# Altium footprint library EISI.PcbLib: 695 footprints (part 23 of 44)
Each footprint in its own frame and in the unit in brackets; x right, y up, seen from the top. Pads: shape width x height; smd on the part's side, far side on the other; paste and mask are expansions set on the pad; w line width, h text height; cw(c..) or ccw(c..) is an arc to the next point about the centre after c.
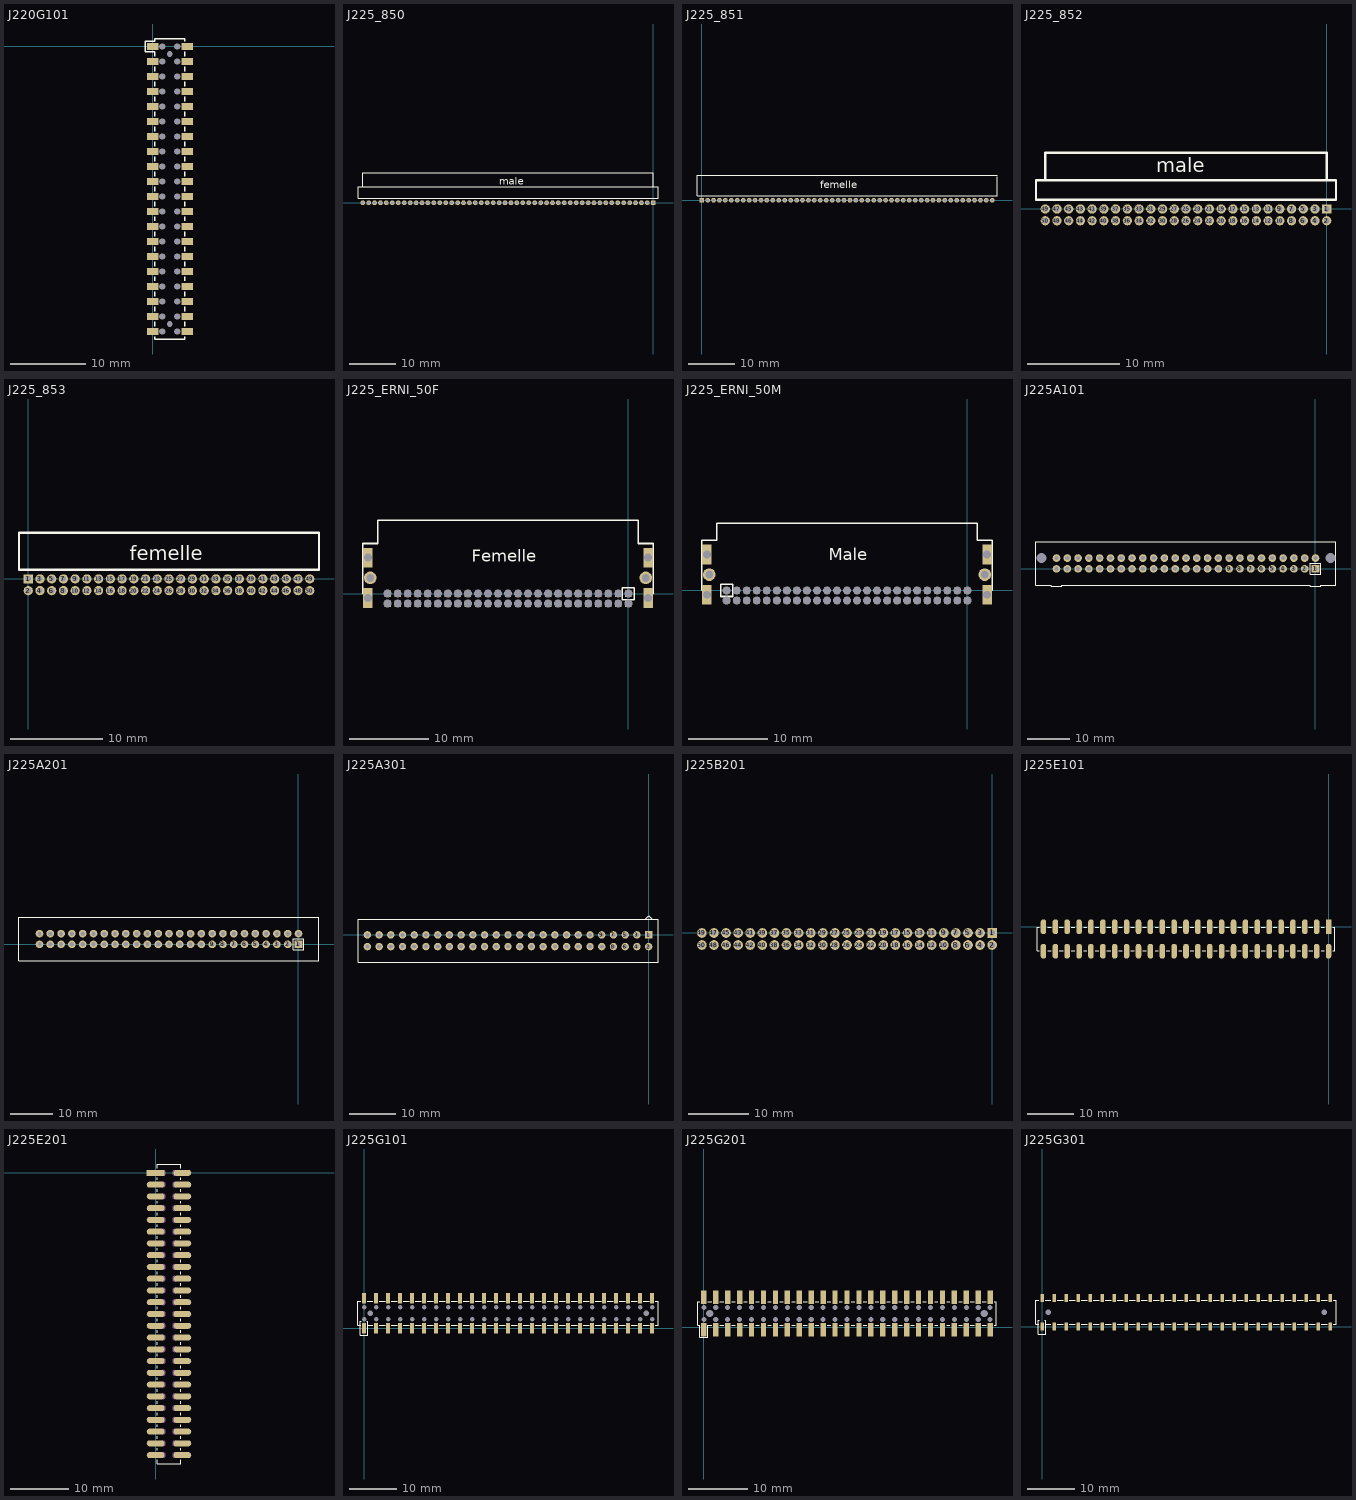
[diagram p22: the footprints below, top view; thin cyan lines are the x and y axes]

## J220G101 [mil]
pads (82):
  rect 60x35 smd: 1(0,0) 2(181.1,0) 3(0,-78.74) 4(181.1,-78.74) 5(0,-157.48) 6(181.1,-157.48) 7(0,-236.22) 8(181.1,-236.22) 9(0,-314.96) 10(181.1,-314.96) 11(0,-393.7) 12(181.1,-393.7) 13(0,-472.44) 14(181.1,-472.44) 15(0,-551.18) 16(181.1,-551.18) 17(0,-629.92) 18(181.1,-629.92) 19(0,-708.66) 20(181.1,-708.66) 21(0,-787.4) 22(181.1,-787.4) 23(0,-866.14) 24(181.1,-866.14) 25(0,-944.88) 26(181.1,-944.88) 27(0,-1023.62) 28(181.1,-1023.62) 29(0,-1102.36) 30(181.1,-1102.36) 31(0,-1181.1) 32(181.1,-1181.1) 33(0,-1259.84) 34(181.1,-1259.84) 35(0,-1338.58) 36(181.1,-1338.58) 37(0,-1417.32) 38(181.1,-1417.32) 39(0,-1496.06) 40(181.1,-1496.06)
  round 12 hole 33.86: ""(51.18,-1496.06) ""(51.18,-1417.32) ""(51.18,-1338.58) ""(51.18,-1259.84) ""(51.18,-1181.1) ""(51.18,-1102.36) ""(51.18,-1023.62) ""(51.18,-944.88) ""(51.18,-866.14) ""(51.18,-787.4) ""(51.18,-708.66) ""(51.18,-629.92) ""(51.18,-551.18) ""(51.18,-472.44) ""(51.18,-393.7) ""(51.18,-314.96) ""(51.18,-236.22) ""(51.18,-157.48) ""(51.18,-78.74) ""(51.18,0) ""(129.92,-1496.06) ""(129.92,-1417.32) ""(129.92,-1338.58) ""(129.92,-1259.84) ""(129.92,-1181.1) ""(129.92,-1102.36) ""(129.92,-1023.62) ""(129.92,-944.88) ""(129.92,-866.14) ""(129.92,-787.4) ""(129.92,-708.66) ""(129.92,-629.92) ""(129.92,-551.18) ""(129.92,-472.44) ""(129.92,-393.7) ""(129.92,-314.96) ""(129.92,-236.22) ""(129.92,-157.48) ""(129.92,-78.74) ""(129.92,0)
  round 12 hole 29.92: ""(90.55,-1456.69) ""(90.55,-39.37)
TopOverlay:
  lines w7.87: 11.81,-1523.62 11.81,-1535.43 169.29,-1535.43 169.29,-1523.62 ; 11.81,-1468.5 11.81,-1444.88 ; 11.81,-1389.76 11.81,-1366.14 ; 11.81,-1311.02 11.81,-1287.4 ; 11.81,-1208.66 12,-1229 ; 11.81,-1153.54 11.81,-1129.92 ; 11.81,-1074.8 11.81,-1051.18 ; 11.81,-996.06 11.81,-972.44 ; 11.81,-893.7 12,-916 ; 11.81,-838.58 11.81,-814.96 ; 11.81,-759.84 11.81,-736.22 ; 11.81,-681.1 11.81,-657.48 ; 11.81,-578.74 12,-602 ; 11.81,-523.62 11.81,-500 ; 11.81,-444.88 11.81,-421.26 ; 11.81,-366.14 11.81,-342.52 ; 11.81,-287.4 11.81,-263.78 ; 11.81,-208.66 11.81,-185.04 ; 11.81,-129.92 11.81,-106.3 ; 11.81,-51.18 11.81,-27.56 -15.75,-27.56 -39.37,-27.56 -39.37,27.56 11.81,27.56 11.81,39.37 169.29,39.37 169.29,27.56 ; 169,-1230 169.29,-1208.66 ; 169,-915 169.29,-893.7 ; 169,-602 169.29,-578.74 ; 169.29,-1468.5 169.29,-1444.88 ; 169.29,-1389.76 169.29,-1366.14 ; 169.29,-1311.02 169.29,-1287.4 ; 169.29,-1153.54 169.29,-1129.92 ; 169.29,-1074.8 169.29,-1051.18 ; 169.29,-996.06 169.29,-972.44 ; 169.29,-838.58 169.29,-814.96 ; 169.29,-759.84 169.29,-736.22 ; 169.29,-681.1 169.29,-657.48 ; 169.29,-523.62 169.29,-500 ; 169.29,-444.88 169.29,-421.26 ; 169.29,-366.14 169.29,-342.52 ; 169.29,-287.4 169.29,-263.78 ; 169.29,-208.66 169.29,-185.04 ; 169.29,-129.92 169.29,-106.3 ; 169.29,-51.18 169.29,-27.56

## J225_850 [mm]
pads (50):
  rect 1x1 hole 0.6: 1(-0.01,0)
  round 1 hole 0.6: 2(-1.28,0) 3(-2.55,0) 4(-3.82,0) 5(-5.09,0) 6(-6.36,0) 7(-7.63,0) 8(-8.9,0) 9(-10.17,0) 10(-11.44,0) 11(-12.71,0) 12(-13.98,0) 13(-15.25,0) 14(-16.52,0) 15(-17.79,0) 16(-19.06,0) 17(-20.33,0) 18(-21.6,0) 19(-22.87,0) 20(-24.14,0) 21(-25.41,0) 22(-26.68,0) 23(-27.95,0) 24(-29.22,0) 25(-30.49,0) 26(-31.76,0) 27(-33.03,0) 28(-34.3,0) 29(-35.57,0) 30(-36.84,0) 31(-38.11,0) 32(-39.38,0) 33(-40.65,0) 34(-41.92,0) 35(-43.19,0) 36(-44.46,0) 37(-45.73,0) 38(-47,0) 39(-48.27,0) 40(-49.54,0) 41(-50.81,0) 42(-52.08,0) 43(-53.35,0) 44(-54.62,0) 45(-55.89,0) 46(-57.16,0) 47(-58.43,0) 48(-59.7,0) 49(-60.97,0) 50(-62.24,0)
TopOverlay:
  lines w0.254: -62.24,3.4 -62.24,6.4 -0.01,6.4 -0.01,3.4 ; -63.24,1 -63.24,3.4 -15.49,3.4 0.99,3.4 0.99,1 -63.24,1
  text "male" at -33.03,3.81 h1.52

## J225_851 [mm]
pads (50):
  rect 1x1 hole 0.6: 1(-0.01,0.001)
  round 1 hole 0.6: 2(1.26,0.001) 3(2.53,0.001) 4(3.8,0.001) 5(5.07,0.001) 6(6.34,0.001) 7(7.61,0.001) 8(8.88,0.001) 9(10.15,0.001) 10(11.42,0.001) 11(12.69,0.001) 12(13.96,0.001) 13(15.23,0.001) 14(16.5,0.001) 15(17.77,0.001) 16(19.04,0.001) 17(20.31,0.001) 18(21.58,0.001) 19(22.85,0.001) 20(24.12,0.001) 21(25.39,0.001) 22(26.66,0.001) 23(27.93,0.001) 24(29.2,0.001) 25(30.47,0.001) 26(31.74,0.001) 27(33.01,0.001) 28(34.28,0.001) 29(35.55,0.001) 30(36.82,0.001) 31(38.09,0.001) 32(39.36,0.001) 33(40.63,0.001) 34(41.9,0.001) 35(43.17,0.001) 36(44.44,0.001) 37(45.71,0.001) 38(46.98,0.001) 39(48.25,0.001) 40(49.52,0.001) 41(50.79,0.001) 42(52.06,0.001) 43(53.33,0.001) 44(54.6,0.001) 45(55.87,0.001) 46(57.14,0.001) 47(58.41,0.001) 48(59.68,0.001) 49(60.95,0.001) 50(62.22,0.001)
TopOverlay:
  lines w0.254: 63.22,5.001 63.22,1.001 -1.01,1.001 -1.01,5.301 63.22,5.301
  text "femelle" at 25.39,2.541 h1.52

## J225_852 [mm]
pads (50):
  rect 1x1 hole 0.6: 1(-0.008,-0.003)
  round 1 hole 0.6: 2(-0.008,-1.273) 3(-1.278,-0.003) 4(-1.278,-1.273) 5(-2.548,-0.003) 6(-2.548,-1.273) 7(-3.818,-0.003) 8(-3.818,-1.273) 9(-5.088,-0.003) 10(-5.088,-1.273) 11(-6.358,-0.003) 12(-6.358,-1.273) 13(-7.628,-0.003) 14(-7.628,-1.273) 15(-8.898,-0.003) 16(-8.898,-1.273) 17(-10.168,-0.003) 18(-10.168,-1.273) 19(-11.438,-0.003) 20(-11.438,-1.273) 21(-12.708,-0.003) 22(-12.708,-1.273) 23(-13.978,-0.003) 24(-13.978,-1.273) 25(-15.248,-0.003) 26(-15.248,-1.273) 27(-16.518,-0.003) 28(-16.518,-1.273) 29(-17.788,-0.003) 30(-17.788,-1.273) 31(-19.058,-0.003) 32(-19.058,-1.273) 33(-20.328,-0.003) 34(-20.328,-1.273) 35(-21.598,-0.003) 36(-21.598,-1.273) 37(-22.868,-0.003) 38(-22.868,-1.273) 39(-24.138,-0.003) 40(-24.138,-1.273) 41(-25.408,-0.003) 42(-25.408,-1.273) 43(-26.678,-0.003) 44(-26.678,-1.273) 45(-27.948,-0.003) 46(-27.948,-1.273) 47(-29.218,-0.003) 48(-29.218,-1.273) 49(-30.488,-0.003) 50(-30.488,-1.273)
TopOverlay:
  lines w0.254: -30.488,3.097 -30.488,6.097 -0.008,6.097 -0.008,3.097 ; -31.488,0.997 0.992,0.997 0.992,3.097 -15.488,3.097 -31.488,3.097 -31.488,0.997
  text "male" at -18.488,3.997 h1.52

## J225_853 [mm]
pads (50):
  rect 1x1 hole 0.6: 1(-0.009,-0.003)
  round 1 hole 0.6: 2(-0.009,-1.273) 3(1.261,-0.003) 4(1.261,-1.273) 5(2.531,-0.003) 6(2.531,-1.273) 7(3.801,-0.003) 8(3.801,-1.273) 9(5.071,-0.003) 10(5.071,-1.273) 11(6.341,-0.003) 12(6.341,-1.273) 13(7.611,-0.003) 14(7.611,-1.273) 15(8.881,-0.003) 16(8.881,-1.273) 17(10.151,-0.003) 18(10.151,-1.273) 19(11.421,-0.003) 20(11.421,-1.273) 21(12.691,-0.003) 22(12.691,-1.273) 23(13.961,-0.003) 24(13.961,-1.273) 25(15.231,-0.003) 26(15.231,-1.273) 27(16.501,-0.003) 28(16.501,-1.273) 29(17.771,-0.003) 30(17.771,-1.273) 31(19.041,-0.003) 32(19.041,-1.273) 33(20.311,-0.003) 34(20.311,-1.273) 35(21.581,-0.003) 36(21.581,-1.273) 37(22.851,-0.003) 38(22.851,-1.273) 39(24.121,-0.003) 40(24.121,-1.273) 41(25.391,-0.003) 42(25.391,-1.273) 43(26.661,-0.003) 44(26.661,-1.273) 45(27.931,-0.003) 46(27.931,-1.273) 47(29.201,-0.003) 48(29.201,-1.273) 49(30.471,-0.003) 50(30.471,-1.273)
TopOverlay:
  lines w0.254: -1.009,0.997 31.471,0.997 31.471,4.997 -1.009,4.997 -1.009,0.997
  text "femelle" at 10.991,1.997 h1.52

## J225_ERNI_50F [mm] "Connecteur ERNI type Q 50 pôles femelle"
height 4.2
pads (56):
  rect 0.8x0.8 hole 1: 1(0,0) 2(-1.27,0) 3(-2.54,0) 4(-3.81,0) 5(-5.08,0) 6(-6.35,0) 7(-7.62,0) 8(-8.89,0) 9(-10.16,0) 10(-11.43,0) 11(-12.7,0) 12(-13.97,0) 13(-15.24,0) 14(-16.51,0) 15(-17.78,0) 16(-19.05,0) 17(-20.32,0) 18(-21.59,0) 19(-22.86,0) 20(-24.13,0) 21(-25.4,0) 22(-26.67,0) 23(-27.94,0) 24(-29.21,0) 25(-30.48,0) 26(0,-1.27) 27(-1.27,-1.27) 28(-2.54,-1.27) 29(-3.81,-1.27) 30(-5.08,-1.27) 31(-6.35,-1.27) 32(-7.62,-1.27) 33(-8.89,-1.27) 34(-10.16,-1.27) 35(-11.43,-1.27) 36(-12.7,-1.27) 37(-13.97,-1.27) 38(-15.24,-1.27) 39(-16.51,-1.27) 40(-17.78,-1.27) 41(-19.05,-1.27) 42(-20.32,-1.27) 43(-21.59,-1.27) 44(-22.86,-1.27) 45(-24.13,-1.27) 46(-25.4,-1.27) 47(-26.67,-1.27) 48(-27.94,-1.27) 49(-29.21,-1.27) 50(-30.48,-1.27)
  rect 1.2x2.5 hole 1: ""(-32.99,-0.55) ""(-32.99,4.55) ""(2.51,-0.55) ""(2.51,4.55)
  round 1.6 hole 1: ""(-32.69,2) ""(2.21,2)
TopOverlay:
  lines w0.2: -33.64,0 -33.64,6.35 -31.75,6.35 -31.75,9.3 1.27,9.3 1.27,6.35 3.16,6.35 3.16,0 ; -0.762,-0.762 0.762,-0.762 0.762,0.762 -0.762,0.762 -0.762,-0.762
  text "Femelle" at -19.812,4.064 h1.52

## J225_ERNI_50M [mm] "Connecteur ERNI type Q 50 pôles mâle"
height 4.2
pads (56):
  rect 0.8x0.8 hole 1: 1(-30.48,0) 2(-29.21,0) 3(-27.94,0) 4(-26.67,0) 5(-25.4,0) 6(-24.13,0) 7(-22.86,0) 8(-21.59,0) 9(-20.32,0) 10(-19.05,0) 11(-17.78,0) 12(-16.51,0) 13(-15.24,0) 14(-13.97,0) 15(-12.7,0) 16(-11.43,0) 17(-10.16,0) 18(-8.89,0) 19(-7.62,0) 20(-6.35,0) 21(-5.08,0) 22(-3.81,0) 23(-2.54,0) 24(-1.27,0) 25(0,0) 26(-30.48,-1.27) 27(-29.21,-1.27) 28(-27.94,-1.27) 29(-26.67,-1.27) 30(-25.4,-1.27) 31(-24.13,-1.27) 32(-22.86,-1.27) 33(-21.59,-1.27) 34(-20.32,-1.27) 35(-19.05,-1.27) 36(-17.78,-1.27) 37(-16.51,-1.27) 38(-15.24,-1.27) 39(-13.97,-1.27) 40(-12.7,-1.27) 41(-11.43,-1.27) 42(-10.16,-1.27) 43(-8.89,-1.27) 44(-7.62,-1.27) 45(-6.35,-1.27) 46(-5.08,-1.27) 47(-3.81,-1.27) 48(-2.54,-1.27) 49(-1.27,-1.27) 50(0,-1.27)
  rect 1.2x2.5 hole 1: ""(-32.99,-0.55) ""(-32.99,4.55) ""(2.51,-0.55) ""(2.51,4.55)
  round 1.6 hole 1: ""(-32.69,2) ""(2.21,2)
TopOverlay:
  lines w0.2: -33.64,0 -33.64,6.35 -31.75,6.35 -31.75,8.5 1.27,8.5 1.27,6.35 3.16,6.35 3.16,0 ; -31.242,-0.762 -31.242,0.762 -29.718,0.762 -29.718,-0.762 -31.242,-0.762
  text "Male" at -17.526,3.81 h1.52

## J225A101 [mm]
pads (52):
  rect 1.8x1.8 hole 1.016 unplated: 1(0,0)
  round 1.8 hole 1.016 unplated: 2(-2.54,0) 3(-5.08,0) 4(-7.62,0) 5(-10.16,0) 6(-12.7,0) 7(-15.24,0) 8(-17.78,0) 9(-20.32,0) 10(-22.86,0) 11(-25.4,0) 12(-27.94,0) 13(-30.48,0) 14(-33.02,0) 15(-35.56,0) 16(-38.1,0) 17(-40.64,0) 18(-43.18,0) 19(-45.72,0) 20(-48.26,0) 21(-50.8,0) 22(-53.34,0) 23(-55.88,0) 24(-58.42,0) 25(-60.96,0) 26(0,2.54) 27(-2.54,2.54) 28(-5.08,2.54) 29(-7.62,2.54) 30(-10.16,2.54) 31(-12.7,2.54) 32(-15.24,2.54) 33(-17.78,2.54) 34(-20.32,2.54) 35(-22.86,2.54) 36(-25.4,2.54) 37(-27.94,2.54) 38(-30.48,2.54) 39(-33.02,2.54) 40(-35.56,2.54) 41(-38.1,2.54) 42(-40.64,2.54) 43(-43.18,2.54) 44(-45.72,2.54) 45(-48.26,2.54) 46(-50.8,2.54) 47(-53.34,2.54) 48(-55.88,2.54) 49(-58.42,2.54) 50(-60.96,2.54)
  round 0.3 hole 2.36: ""(-64.516,2.54) ""(3.556,2.54)
TopOverlay:
  lines w0.254: -65.786,-3.81 -65.786,6.35 4.826,6.35 4.826,-3.81 1.27,-3.81 1.27,-4.064 -1.27,-4.064 -1.27,-3.81 -59.69,-3.81 -59.69,-4.064 -62.23,-4.064 -62.23,-3.81 -65.786,-3.81 ; -1.27,-1.27 -1.27,1.27 1.27,1.27 1.27,-1.27 -1.27,-1.27

## J225A201 [mm]
pads (50):
  rect 1.8x1.8 hole 1.016 unplated: 1(0,0)
  round 1.8 hole 1.016 unplated: 2(-2.54,0) 3(-5.08,0) 4(-7.62,0) 5(-10.16,0) 6(-12.7,0) 7(-15.24,0) 8(-17.78,0) 9(-20.32,0) 10(-22.86,0) 11(-25.4,0) 12(-27.94,0) 13(-30.48,0) 14(-33.02,0) 15(-35.56,0) 16(-38.1,0) 17(-40.64,0) 18(-43.18,0) 19(-45.72,0) 20(-48.26,0) 21(-50.8,0) 22(-53.34,0) 23(-55.88,0) 24(-58.42,0) 25(-60.96,0) 26(0,2.54) 27(-2.54,2.54) 28(-5.08,2.54) 29(-7.62,2.54) 30(-10.16,2.54) 31(-12.7,2.54) 32(-15.24,2.54) 33(-17.78,2.54) 34(-20.32,2.54) 35(-22.86,2.54) 36(-25.4,2.54) 37(-27.94,2.54) 38(-30.48,2.54) 39(-33.02,2.54) 40(-35.56,2.54) 41(-38.1,2.54) 42(-40.64,2.54) 43(-43.18,2.54) 44(-45.72,2.54) 45(-48.26,2.54) 46(-50.8,2.54) 47(-53.34,2.54) 48(-55.88,2.54) 49(-58.42,2.54) 50(-60.96,2.54)
TopOverlay:
  lines w0.254: -65.786,-3.81 -62.23,-3.81 -59.69,-3.81 -1.27,-3.81 -1.27,-3.813 1.27,-3.813 1.27,-3.81 4.826,-3.81 4.826,6.35 -65.786,6.35 -65.786,-3.81 ; -1.27,-1.27 1.27,-1.27 1.27,1.27 -1.27,1.27 -1.27,-1.27

## J225A301 [mm]
pads (50):
  rect 1.6x1.6 hole 0.9: 1(0,0)
  round 1.6 hole 0.9: 2(0,-2.54) 3(-2.54,0) 4(-2.54,-2.54) 5(-5.08,0) 6(-5.08,-2.54) 7(-7.62,0) 8(-7.62,-2.54) 9(-10.16,0) 10(-10.16,-2.54) 11(-12.7,0) 12(-12.7,-2.54) 13(-15.24,0) 14(-15.24,-2.54) 15(-17.78,0) 16(-17.78,-2.54) 17(-20.32,0) 18(-20.32,-2.54) 19(-22.86,0) 20(-22.86,-2.54) 21(-25.4,0) 22(-25.4,-2.54) 23(-27.94,0) 24(-27.94,-2.54) 25(-30.48,0) 26(-30.48,-2.54) 27(-33.02,0) 28(-33.02,-2.54) 29(-35.56,0) 30(-35.56,-2.54) 31(-38.1,0) 32(-38.1,-2.54) 33(-40.64,0) 34(-40.64,-2.54) 35(-43.18,0) 36(-43.18,-2.54) 37(-45.72,0) 38(-45.72,-2.54) 39(-48.26,0) 40(-48.26,-2.54) 41(-50.8,0) 42(-50.8,-2.54) 43(-53.34,0) 44(-53.34,-2.54) 45(-55.88,0) 46(-55.88,-2.54) 47(-58.42,0) 48(-58.42,-2.54) 49(-60.96,0) 50(-60.96,-2.54)
TopOverlay:
  lines w0.2: -0.762,3.429 0,4.191 0.762,3.429
  lines w0.254: -62.992,-5.969 -59.69,-5.969 2.032,-5.969 2.032,3.429 -62.992,3.429 -62.992,-5.969

## J225B201 [mm]
pads (50):
  rect 1.6x1.6 hole 0.9: 1(0,0)
  round 1.6 hole 0.9: 2(0,-2) 3(-2,0) 4(-2,-2) 5(-4,0) 6(-4,-2) 7(-6,0) 8(-6,-2) 9(-8,0) 10(-8,-2) 11(-10,0) 12(-10,-2) 13(-12,0) 14(-12,-2) 15(-14,0) 16(-14,-2) 17(-16,0) 18(-16,-2) 19(-18,0) 20(-18,-2) 21(-20,0) 22(-20,-2) 23(-22,0) 24(-22,-2) 25(-24,0) 26(-24,-2) 27(-26,0) 28(-26,-2) 29(-28,0) 30(-28,-2) 31(-30,0) 32(-30,-2) 33(-32,0) 34(-32,-2) 35(-34,0) 36(-34,-2) 37(-36,0) 38(-36,-2) 39(-38,0) 40(-38,-2) 41(-40,0) 42(-40,-2) 43(-42,0) 44(-42,-2) 45(-44,0) 46(-44,-2) 47(-46,0) 48(-46,-2) 49(-48,0) 50(-48,-2)

## J225E101 [mil]
pads (50):
  rect 47x125 smd: 1(0,0)
  oval 47x125 smd: 2(0,-205) 3(-100,0) 4(-100,-205) 5(-200,0) 6(-200,-205) 7(-300,0) 8(-300,-205) 9(-400,0) 10(-400,-205) 11(-500,0) 12(-500,-205) 13(-600,0) 14(-600,-205) 15(-700,0) 16(-700,-205) 17(-800,0) 18(-800,-205) 19(-900,0) 20(-900,-205) 21(-1000,0) 22(-1000,-205) 23(-1100,0) 24(-1100,-205) 25(-1200,0) 26(-1200,-205) 27(-1300,0) 28(-1300,-205) 29(-1400,0) 30(-1400,-205) 31(-1500,0) 32(-1500,-205) 33(-1600,0) 34(-1600,-205) 35(-1700,0) 36(-1700,-205) 37(-1800,0) 38(-1800,-205) 39(-1900,0) 40(-1900,-205) 41(-2000,0) 42(-2000,-205) 43(-2100,0) 44(-2100,-205) 45(-2200,0) 46(-2200,-205) 47(-2300,0) 48(-2300,-205) 49(-2400,0) 50(-2400,-205)
TopOverlay:
  lines w7.87: -2435,-200 -2450,-200 -2450,-5 -2435,-5 ; -2365,-200 -2335,-200 ; -2365,-5 -2335,-5 ; -2265,-200 -2235,-200 ; -2265,-5 -2235,-5 ; -2165,-200 -2135,-200 ; -2165,-5 -2135,-5 ; -2060,-200 -2035,-200 ; -2060,-5 -2035,-5 ; -1965,-200 -1935,-200 ; -1965,-5 -1935,-5 ; -1865,-200 -1835,-200 ; -1865,-5 -1835,-5 ; -1765,-200 -1735,-200 ; -1765,-5 -1735,-5 ; -1665,-200 -1635,-200 ; -1665,-5 -1635,-5 ; -1565,-200 -1535,-200 ; -1565,-5 -1535,-5 ; -1460,-200 -1435,-200 ; -1460,-5 -1435,-5 ; -1365,-200 -1335,-200 ; -1365,-5 -1335,-5 ; -1260,-200 -1235,-200 ; -1260,-5 -1235,-5 ; -1165,-200 -1135,-200 ; -1165,-5 -1135,-5 ; -1065,-200 -1035,-200 ; -1065,-5 -1035,-5 ; -965,-200 -935,-200 ; -965,-5 -935,-5 ; -865,-200 -835,-200 ; -865,-5 -835,-5 ; -765,-200 -735,-200 ; -765,-5 -735,-5 ; -665,-200 -635,-200 ; -665,-5 -635,-5 ; -565,-200 -535,-200 ; -565,-5 -535,-5 ; -465,-200 -435,-200 ; -465,-5 -435,-5 ; -365,-200 -335,-200 ; -365,-5 -335,-5 ; -265,-200 -235,-200 ; -265,-5 -235,-5 ; -165,-200 -135,-200 ; -165,-5 -135,-5 ; -60,-200 -35,-200 ; -60,-5 -35,-5 ; 35,-200 50,-200 50,-5 35,-5

## J225E201 [mm]
pads (50):
  rect 3.02x1.02 smd: 1(0,0)
  oval 3.02x1.02 smd: 2(4.55,0) 3(0,-2) 4(4.55,-2) 5(0,-4) 6(4.55,-4) 7(0,-6) 8(4.55,-6) 9(0,-8) 10(4.55,-8) 11(0,-10) 12(4.55,-10) 13(0,-12) 14(4.55,-12) 15(0,-14) 16(4.55,-14) 17(0,-16) 18(4.55,-16) 19(0,-18) 20(4.55,-18) 21(0,-20) 22(4.55,-20) 23(0,-22) 24(4.55,-22) 25(0,-24) 26(4.55,-24) 27(0,-26) 28(4.55,-26) 29(0,-28) 30(4.55,-28) 31(0,-30) 32(4.55,-30) 33(0,-32) 34(4.55,-32) 35(0,-34) 36(4.55,-34) 37(0,-36) 38(4.55,-36) 39(0,-38) 40(4.55,-38) 41(0,-40) 42(4.55,-40) 43(0,-42) 44(4.55,-42) 45(0,-44) 46(4.55,-44) 47(0,-46) 48(4.55,-46) 49(0,-48) 50(4.55,-48)
TopOverlay:
  lines w0.2: 0.275,-48.8 0.275,-49.5 4.275,-49.5 4.275,-48.8 ; 0.275,-47.2 0.275,-46.8 ; 0.275,-45.2 0.275,-44.8 ; 0.275,-43.2 0.275,-42.8 ; 0.275,-39.232 0.275,-38.832 ; 0.275,-37.2 0.275,-36.8 ; 0.275,-33.2 0.275,-32.8 ; 0.275,-31.2 0.275,-30.8 ; 0.275,-29.2 0.275,-28.8 ; 0.275,-27.2 0.275,-26.8 ; 0.275,-25.2 0.275,-24.8 ; 0.275,-21.2 0.275,-20.8 ; 0.275,-19.2 0.275,-18.8 ; 0.275,-17.2 0.275,-16.8 ; 0.275,-13.2 0.275,-12.8 ; 0.275,-11.2 0.275,-10.8 ; 0.275,-9.2 0.275,-8.8 ; 0.275,-7.2 0.275,-6.8 ; 0.275,-5.2 0.275,-4.8 ; 0.275,-3.2 0.275,-2.8 ; 0.275,-1.2 0.275,-0.8 ; 0.275,0.8 0.275,1.5 4.275,1.5 4.275,0.8 ; 0.279,-41.189 0.279,-40.808 ; 0.279,-35.189 0.279,-34.808 ; 0.279,-23.216 0.279,-22.809 ; 0.279,-15.189 0.279,-14.808 ; 4.267,-41.189 4.275,-40.8 ; 4.267,-35.189 4.275,-34.8 ; 4.267,-23.216 4.267,-22.809 ; 4.267,-15.189 4.275,-14.8 ; 4.275,-47.2 4.275,-46.8 ; 4.275,-45.2 4.275,-44.8 ; 4.275,-43.2 4.275,-42.8 ; 4.275,-39.232 4.275,-38.832 ; 4.275,-37.2 4.275,-36.8 ; 4.275,-33.2 4.275,-32.8 ; 4.275,-31.2 4.275,-30.8 ; 4.275,-29.2 4.275,-28.8 ; 4.275,-27.2 4.275,-26.8 ; 4.275,-25.2 4.275,-24.8 ; 4.275,-21.2 4.275,-20.8 ; 4.275,-19.2 4.275,-18.8 ; 4.275,-17.2 4.275,-16.8 ; 4.275,-13.2 4.275,-12.8 ; 4.275,-11.2 4.275,-10.8 ; 4.275,-9.2 4.275,-8.8 ; 4.275,-7.2 4.275,-6.8 ; 4.275,-5.2 4.275,-4.8 ; 4.275,-3.2 4.275,-2.8 ; 4.275,-1.2 4.275,-0.8
Mechanical4:
  circle w0.2: c3.275,-48 r0.4
  circle w0.2: c1.275,-48 r0.4
  circle w0.2: c1.275,-46 r0.4
  circle w0.2: c3.275,-46 r0.4
  circle w0.2: c3.275,-44 r0.4
  circle w0.2: c1.275,-44 r0.4
  circle w0.2: c1.275,-42 r0.4
  circle w0.2: c3.275,-42 r0.4
  circle w0.2: c3.275,-40 r0.4
  circle w0.2: c1.275,-40 r0.4
  circle w0.2: c3.275,-38 r0.4
  circle w0.2: c1.275,-38 r0.4
  circle w0.2: c1.275,-36 r0.4
  circle w0.2: c3.275,-36 r0.4
  circle w0.2: c3.275,-34 r0.4
  circle w0.2: c1.275,-34 r0.4
  circle w0.2: c1.275,-32 r0.4
  circle w0.2: c3.275,-32 r0.4
  circle w0.2: c1.275,-30 r0.4
  circle w0.2: c3.275,-30 r0.4
  circle w0.2: c3.275,-28 r0.4
  circle w0.2: c1.275,-28 r0.4
  circle w0.2: c1.275,-26 r0.4
  circle w0.2: c3.275,-26 r0.4
  circle w0.2: c3.275,-24 r0.4
  circle w0.2: c1.275,-24 r0.4
  circle w0.2: c3.275,-22 r0.4
  circle w0.2: c1.275,-22 r0.4
  circle w0.2: c1.275,-20 r0.4
  circle w0.2: c3.275,-20 r0.4
  circle w0.2: c3.275,-18 r0.4
  circle w0.2: c1.275,-18 r0.4
  circle w0.2: c1.275,-16 r0.4
  circle w0.2: c3.275,-16 r0.4
  circle w0.2: c3.275,0 r0.4
  circle w0.2: c3.275,-14 r0.4
  circle w0.2: c1.275,-14 r0.4
  circle w0.2: c1.275,-12 r0.4
  circle w0.2: c3.275,-12 r0.4
  circle w0.2: c1.275,-10 r0.4
  circle w0.2: c3.275,-10 r0.4
  circle w0.2: c3.275,-8 r0.4
  circle w0.2: c1.275,-8 r0.4
  circle w0.2: c1.275,-6 r0.4
  circle w0.2: c3.275,-6 r0.4
  circle w0.2: c3.275,-4 r0.4
  circle w0.2: c1.275,-4 r0.4
  circle w0.2: c3.275,-2 r0.4
  circle w0.2: c1.275,-2 r0.4
  circle w0.2: c1.275,0 r0.4

## J225G101 [mil]
pads (102):
  rect 35x91 smd: 1(0,0) 2(0,250) 3(100,0) 4(100,250) 5(200,0) 6(200,250) 7(300,0) 8(300,250) 9(400,0) 10(400,250) 11(500,0) 12(500,250) 13(600,0) 14(600,250) 15(700,0) 16(700,250) 17(800,0) 18(800,250) 19(900,0) 20(900,250) 21(1000,0) 22(1000,250) 23(1100,0) 24(1100,250) 25(1200,0) 26(1200,250) 27(1300,0) 28(1300,250) 29(1400,0) 30(1400,250) 31(1500,0) 32(1500,250) 33(1600,0) 34(1600,250) 35(1700,0) 36(1700,250) 37(1800,0) 38(1800,250) 39(1900,0) 40(1900,250) 41(2000,0) 42(2000,250) 43(2100,0) 44(2100,250) 45(2200,0) 46(2200,250) 47(2300,0) 48(2300,250) 49(2400,0) 50(2400,250)
  round 12 hole 38: ""(0,75) ""(0,175) ""(100,75) ""(100,175) ""(200,75) ""(200,175) ""(300,75) ""(300,175) ""(400,75) ""(400,175) ""(500,75) ""(500,175) ""(600,75) ""(600,175) ""(700,75) ""(700,175) ""(800,75) ""(800,175) ""(900,75) ""(900,175) ""(1000,75) ""(1000,175) ""(1100,75) ""(1100,175) ""(1200,75) ""(1200,175) ""(1300,75) ""(1300,175) ""(1400,75) ""(1400,175) ""(1500,75) ""(1500,175) ""(1600,75) ""(1600,175) ""(1700,75) ""(1700,175) ""(1800,75) ""(1800,175) ""(1900,75) ""(1900,175) ""(2000,75) ""(2000,175) ""(2100,75) ""(2100,175) ""(2200,75) ""(2200,175) ""(2300,75) ""(2300,175) ""(2400,75) ""(2400,175)
  round 12 hole 47: ""(50,125) ""(2350,125)
TopOverlay:
  lines w7.87: -27.56,25 -51.18,25 -51.18,225.79 -27.56,225.79 ; -23.62,56.5 -31.5,56.5 -31.5,25 -31.5,-57.68 27.56,-57.68 31.5,-57.68 31.5,52.56 31.5,56.5 23.62,56.5 ; 27.56,25 70.87,25 ; 27.56,225.79 70.87,225.79 ; 126.77,25 174.01,25 ; 126.77,225.79 174.01,225.79 ; 226.77,25 274.01,25 ; 226.77,225.79 274.01,225.79 ; 326.77,25 374.01,25 ; 326.77,225.79 374.01,225.79 ; 426.77,25 474.01,25 ; 426.77,225.79 474.01,225.79 ; 526.77,25 574.01,25 ; 526.77,225.79 574.01,225.79 ; 626.77,25 674.01,25 ; 626.77,225.79 674.01,225.79 ; 726.77,25 774.01,25 ; 726.77,225.79 774.01,225.79 ; 826.77,25 874.01,25 ; 826.77,225.79 874.01,225.79 ; 926.77,25 974.01,25 ; 926.77,225.79 974.01,225.79 ; 1026.77,25 1074.02,25 ; 1026.77,225.79 1074.02,225.79 ; 1126.77,25 1174.02,25 ; 1126.77,225.79 1174.02,225.79 ; 1226.77,25 1274.02,25 ; 1226.77,225.79 1274.02,225.79 ; 1326.77,25 1374.02,25 ; 1326.77,225.79 1374.02,225.79 ; 1426.77,25 1474.02,25 ; 1426.77,225.79 1474.02,225.79 ; 1526.77,25 1574.02,25 ; 1526.77,225.79 1574.02,225.79 ; 1626.77,25 1674.02,25 ; 1626.77,225.79 1674.02,225.79 ; 1726.77,25 1774.02,25 ; 1726.77,225.79 1774.02,225.79 ; 1826.77,25 1874.02,25 ; 1826.77,225.79 1874.02,225.79 ; 1926.77,25 1974.02,25 ; 1926.77,225.79 1974.02,225.79 ; 2026.77,25 2074.01,25 ; 2026.77,225.79 2074.01,225.79 ; 2126.77,25 2174.01,25 ; 2126.77,225.79 2174.01,225.79 ; 2226.77,25 2274.01,25 ; 2226.77,225.79 2274.01,225.79 ; 2326.77,25 2374.01,25 ; 2326.77,225.79 2374.01,225.79 ; 2425.2,25 2448.82,25 2448.82,225.79 2425.2,225.79

## J225G201 [mm]
pads (102):
  rect 0.889x2.286 smd: 1(0,-0.4) 2(0,5) 3(2,-0.4) 4(2,5) 5(4,-0.4) 6(4,5) 7(6,-0.4) 8(6,5) 9(8,-0.4) 10(8,5) 11(10,-0.4) 12(10,5) 13(12,-0.4) 14(12,5) 15(14,-0.4) 16(14,5) 17(16,-0.4) 18(16,5) 19(18,-0.4) 20(18,5) 21(20,-0.4) 22(20,5) 23(22,-0.4) 24(22,5) 25(24,-0.4) 26(24,5) 27(26,-0.4) 28(26,5) 29(28,-0.4) 30(28,5) 31(30,-0.4) 32(30,5) 33(32,-0.4) 34(32,5) 35(34,-0.4) 36(34,5) 37(36,-0.4) 38(36,5) 39(38,-0.4) 40(38,5) 41(40,-0.4) 42(40,5) 43(42,-0.4) 44(42,5) 45(44,-0.4) 46(44,5) 47(46,-0.4) 48(46,5) 49(48,-0.4) 50(48,5)
  round 0.305 hole 0.86: ""(0,1.3) ""(0,3.3) ""(2,1.3) ""(2,3.3) ""(4,1.3) ""(4,3.3) ""(6,1.3) ""(6,3.3) ""(8,1.3) ""(8,3.3) ""(10,1.3) ""(10,3.3) ""(12,1.3) ""(12,3.3) ""(14,1.3) ""(14,3.3) ""(16,1.3) ""(16,3.3) ""(18,1.3) ""(18,3.3) ""(20,1.3) ""(20,3.3) ""(22,1.3) ""(22,3.3) ""(24,1.3) ""(24,3.3) ""(26,1.3) ""(26,3.3) ""(28,1.3) ""(28,3.3) ""(30,1.3) ""(30,3.3) ""(32,1.3) ""(32,3.3) ""(34,1.3) ""(34,3.3) ""(36,1.3) ""(36,3.3) ""(38,1.3) ""(38,3.3) ""(40,1.3) ""(40,3.3) ""(42,1.3) ""(42,3.3) ""(44,1.3) ""(44,3.3) ""(46,1.3) ""(46,3.3) ""(48,1.3) ""(48,3.3)
  round 0.305 hole 1.19: ""(1,2.3) ""(47,2.3)
TopOverlay:
  lines w0.2: -0.7,4.3 -1,4.3 -1,0.3 -0.7,0.3 -0.7,-1.7 0.7,-1.7 0.7,-0.4 0.7,0.3 1.3,0.3 ; 0.7,4.3 1.3,4.3 ; 2.7,0.3 3.3,0.3 ; 2.7,4.3 3.3,4.3 ; 4.7,0.3 5.3,0.3 ; 4.7,4.3 5.3,4.3 ; 6.7,0.3 7.3,0.3 ; 6.7,4.3 7.3,4.3 ; 8.7,0.3 9.3,0.3 ; 8.7,4.3 9.3,4.3 ; 10.7,0.3 11.3,0.3 ; 10.7,4.3 11.3,4.3 ; 12.7,0.3 13.3,0.3 ; 12.7,4.3 13.3,4.3 ; 14.7,0.3 15.291,0.305 ; 14.7,4.3 15.291,4.293 ; 16.7,0.3 17.3,0.3 ; 16.7,4.3 17.3,4.3 ; 18.7,0.3 19.3,0.3 ; 18.7,4.3 19.3,4.3 ; 20.7,0.3 21.3,0.3 ; 20.7,4.3 21.3,4.3 ; 22.7,0.3 23.266,0.305 ; 22.7,4.3 23.241,4.293 ; 24.7,0.3 25.3,0.3 ; 24.7,4.3 25.3,4.3 ; 26.7,0.3 27.3,0.3 ; 26.7,4.3 27.3,4.3 ; 28.7,0.3 29.3,0.3 ; 28.7,4.3 29.3,4.3 ; 30.7,0.3 31.217,0.305 ; 30.7,4.3 31.242,4.293 ; 32.7,0.3 33.3,0.3 ; 32.7,4.3 33.3,4.3 ; 34.7,0.3 35.3,0.3 ; 34.7,4.3 35.3,4.3 ; 36.7,0.3 37.3,0.3 ; 36.7,4.3 37.3,4.3 ; 38.7,0.3 39.2,0.3 ; 38.7,4.3 39.2,4.3 ; 40.7,0.3 41.217,0.305 ; 40.7,4.3 41.242,4.293 ; 42.7,0.3 43.3,0.3 ; 42.7,4.3 43.3,4.3 ; 44.7,0.3 45.3,0.3 ; 44.7,4.3 45.3,4.3 ; 46.7,0.3 47.3,0.3 ; 46.7,4.3 47.3,4.3 ; 48.7,0.3 49,0.3 49,4.3 48.7,4.3

## J225G301 [mm]
pads (52):
  rect 0.8x1.7 smd: 1(0,0) 2(0,6.096) 3(2.54,0) 4(2.54,6.096) 5(5.08,0) 6(5.08,6.096) 7(7.62,0) 8(7.62,6.096) 9(10.16,0) 10(10.16,6.096) 11(12.7,0) 12(12.7,6.096) 13(15.24,0) 14(15.24,6.096) 15(17.78,0) 16(17.78,6.096) 17(20.32,0) 18(20.32,6.096) 19(22.86,0) 20(22.86,6.096) 21(25.4,0) 22(25.4,6.096) 23(27.94,0) 24(27.94,6.096) 25(30.48,0) 26(30.48,6.096) 27(33.02,0) 28(33.02,6.096) 29(35.56,0) 30(35.56,6.096) 31(38.1,0) 32(38.1,6.096) 33(40.64,0) 34(40.64,6.096) 35(43.18,0) 36(43.18,6.096) 37(45.72,0) 38(45.72,6.096) 39(48.26,0) 40(48.26,6.096) 41(50.8,0) 42(50.8,6.096) 43(53.34,0) 44(53.34,6.096) 45(55.88,0) 46(55.88,6.096) 47(58.42,0) 48(58.42,6.096) 49(60.96,0) 50(60.96,6.096)
  round 0.305 hole 1.194: ""(1.27,3.048) ""(59.69,3.048)
TopOverlay:
  lines w0.2: -0.7,0.508 -1.3,0.508 -1.3,5.608 -0.7,5.608 ; -0.6,1.308 -0.8,1.308 -0.8,0.508 -0.8,-1.592 0.7,-1.592 0.8,-1.592 0.8,1.208 0.8,1.308 0.6,1.308 ; 0.7,0.508 1.8,0.508 ; 0.7,5.608 1.8,5.608 ; 3.22,0.508 4.42,0.508 ; 3.22,5.608 4.42,5.608 ; 5.76,0.508 6.96,0.508 ; 5.76,5.608 6.96,5.608 ; 8.3,0.508 9.5,0.508 ; 8.3,5.608 9.5,5.608 ; 10.84,0.508 12.04,0.508 ; 10.84,5.608 12.04,5.608 ; 13.38,0.508 14.58,0.508 ; 13.38,5.608 14.58,5.608 ; 15.92,0.508 17.12,0.508 ; 15.92,5.608 17.12,5.608 ; 18.46,0.508 19.66,0.508 ; 18.46,5.608 19.66,5.608 ; 21,0.508 22.2,0.508 ; 21,5.608 22.2,5.608 ; 23.54,0.508 24.74,0.508 ; 23.54,5.608 24.74,5.608 ; 26.08,0.508 27.28,0.508 ; 26.08,5.608 27.28,5.608 ; 28.62,0.508 29.82,0.508 ; 28.62,5.608 29.82,5.608 ; 31.16,0.508 32.36,0.508 ; 31.16,5.608 32.36,5.608 ; 33.7,0.508 34.9,0.508 ; 33.7,5.608 34.9,5.608 ; 36.24,0.508 37.44,0.508 ; 36.24,5.608 37.44,5.608 ; 38.78,0.508 39.98,0.508 ; 38.78,5.608 39.98,5.608 ; 41.32,0.508 42.52,0.508 ; 41.32,5.608 42.52,5.608 ; 43.86,0.508 45.06,0.508 ; 43.86,5.608 45.06,5.608 ; 46.4,0.508 47.6,0.508 ; 46.4,5.608 47.6,5.608 ; 48.94,0.508 50.14,0.508 ; 48.94,5.608 50.14,5.608 ; 51.48,0.508 52.68,0.508 ; 51.48,5.608 52.68,5.608 ; 54.02,0.508 55.22,0.508 ; 54.02,5.608 55.22,5.608 ; 56.56,0.508 57.76,0.508 ; 56.56,5.608 57.76,5.608 ; 59.1,0.508 60.3,0.508 ; 59.1,5.608 60.3,5.608 ; 61.6,0.508 62.2,0.508 62.2,5.608 61.6,5.608